# EAGLE library part FX18-60S-0.8SV(15/20) (library Erle)
Hirose FX18-60S-0.8VS15/20 connector device. Notice that is for 15/200 height type connectors
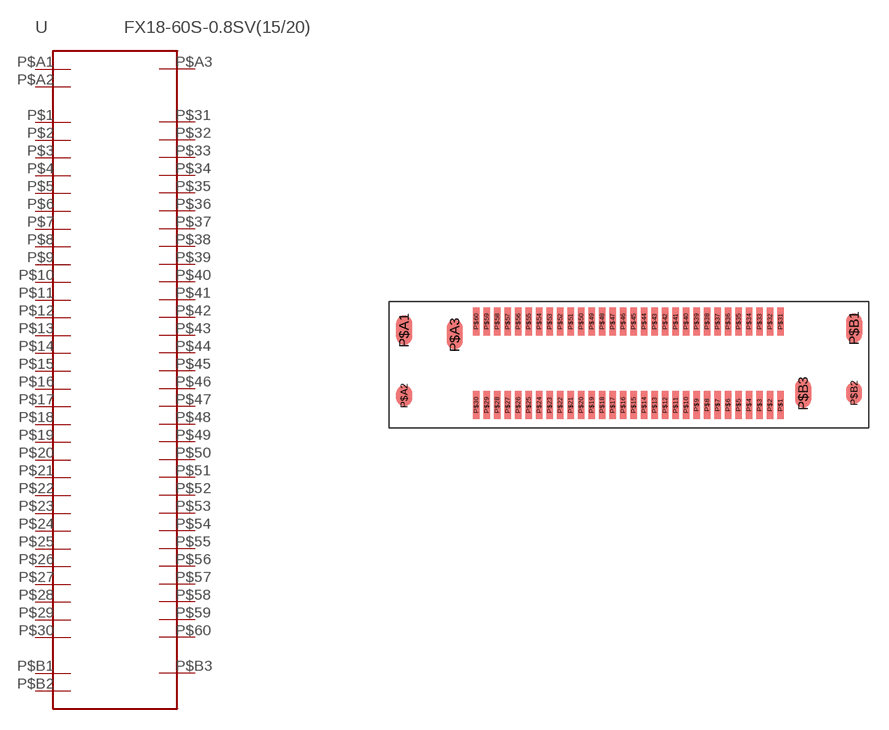
[diagram p0: symbol with the pads of FX18-60S-0.8SV; footprint FX18-60S-0.8SV]

Designator prefix -

## FX18-60S-0.8SV(15/20)  [FX18-60S-0.8SV]
P$1  P$1
P$2  P$2
P$3  P$3
P$4  P$4
P$5  P$5
P$6  P$6
P$7  P$7
P$8  P$8
P$9  P$9
P$10  P$10
P$11  P$11
P$12  P$12
P$13  P$13
P$14  P$14
P$15  P$15
P$16  P$16
P$17  P$17
P$18  P$18
P$19  P$19
P$20  P$20
P$21  P$21
P$22  P$22
P$23  P$23
P$24  P$24
P$25  P$25
P$26  P$26
P$27  P$27
P$28  P$28
P$29  P$29
P$30  P$30
P$31  P$31
P$32  P$32
P$33  P$33
P$34  P$34
P$35  P$35
P$36  P$36
P$37  P$37
P$38  P$38
P$39  P$39
P$40  P$40
P$41  P$41
P$42  P$42
P$43  P$43
P$44  P$44
P$45  P$45
P$46  P$46
P$47  P$47
P$48  P$48
P$49  P$49
P$50  P$50
P$51  P$51
P$52  P$52
P$53  P$53
P$54  P$54
P$55  P$55
P$56  P$56
P$57  P$57
P$58  P$58
P$59  P$59
P$60  P$60
P$A1  P$A1
P$A2  P$A2
P$A3  P$A3
P$B1  P$B1
P$B2  P$B2
P$B3  P$B3

## Footprint FX18-60S-0.8SV (pad centres in mm)
smd 0.5 x 2.108: P$1 23.089,-3.088; P$2 22.301,-3.088; P$3 21.514,-3.088; P$4 20.726,-3.088; P$5 19.939,-3.088; P$6 19.152,-3.088; P$7 18.364,-3.088; P$8 17.577,-3.088; P$9 16.789,-3.088; P$10 16.002,-3.088; P$11 15.215,-3.088; P$12 14.427,-3.088; P$13 13.64,-3.088; P$14 12.852,-3.088; P$15 12.065,-3.088; P$16 11.278,-3.088; P$17 10.49,-3.088; P$18 9.703,-3.088; P$19 8.915,-3.088; P$20 8.128,-3.088; P$21 7.341,-3.088; P$22 6.553,-3.088; P$23 5.766,-3.088; P$24 4.978,-3.088; P$25 4.191,-3.088; P$26 3.404,-3.088; P$27 2.616,-3.088; P$28 1.829,-3.088; P$29 1.041,-3.088; P$30 0.254,-3.088; P$31 23.089,3.184; P$32 22.301,3.184; P$33 21.514,3.184; P$34 20.726,3.184; P$35 19.939,3.184; P$36 19.152,3.184; P$37 18.364,3.184; P$38 17.577,3.184; P$39 16.789,3.184; P$40 16.002,3.184; P$41 15.215,3.184; P$42 14.427,3.184; P$43 13.64,3.184; P$44 12.852,3.184; P$45 12.065,3.184; P$46 11.278,3.184; P$47 10.49,3.184; P$48 9.703,3.184; P$49 8.915,3.184; P$50 8.128,3.184; P$51 7.341,3.184; P$52 6.553,3.184; P$53 5.766,3.184; P$54 4.978,3.184; P$55 4.191,3.184; P$56 3.404,3.184; P$57 2.616,3.184; P$58 1.829,3.184; P$59 1.041,3.184; P$60 0.254,3.184
smd 1.2 x 2.2: P$A1 -5.15,2.54; P$A3 -1.35,2.2; P$B1 28.62,2.7; P$B3 24.8,-2.2
smd 1.2 x 1.6: P$A2 -5.15,-2.39; P$B2 28.613,-2.19